# Altium schematic symbol library Translator_IC_SN74AXC1T45-Q1.SchLib: 1 symbol
Pins are listed as number, name and electrical type; pins without a type are passive.

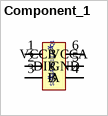
[diagram p0: symbol Component_1]

## Component_1
designator *
footprint SN74AXC1T45-Q1
pins: 1 VCCA, 2 GND, 3 A, 4 B, 5 DIR, 6 VCCB
text: SN74AXC1T45-Q1